# Altium footprint library TH resistors.PcbLib: 92 footprints (part 1 of 6)
Each footprint in its own frame and in the unit in brackets; x right, y up, seen from the top. Pads: shape width x height; smd on the part's side, far side on the other; paste and mask are expansions set on the pad; w line width, h text height; cw(c..) or ccw(c..) is an arc to the next point about the centre after c.
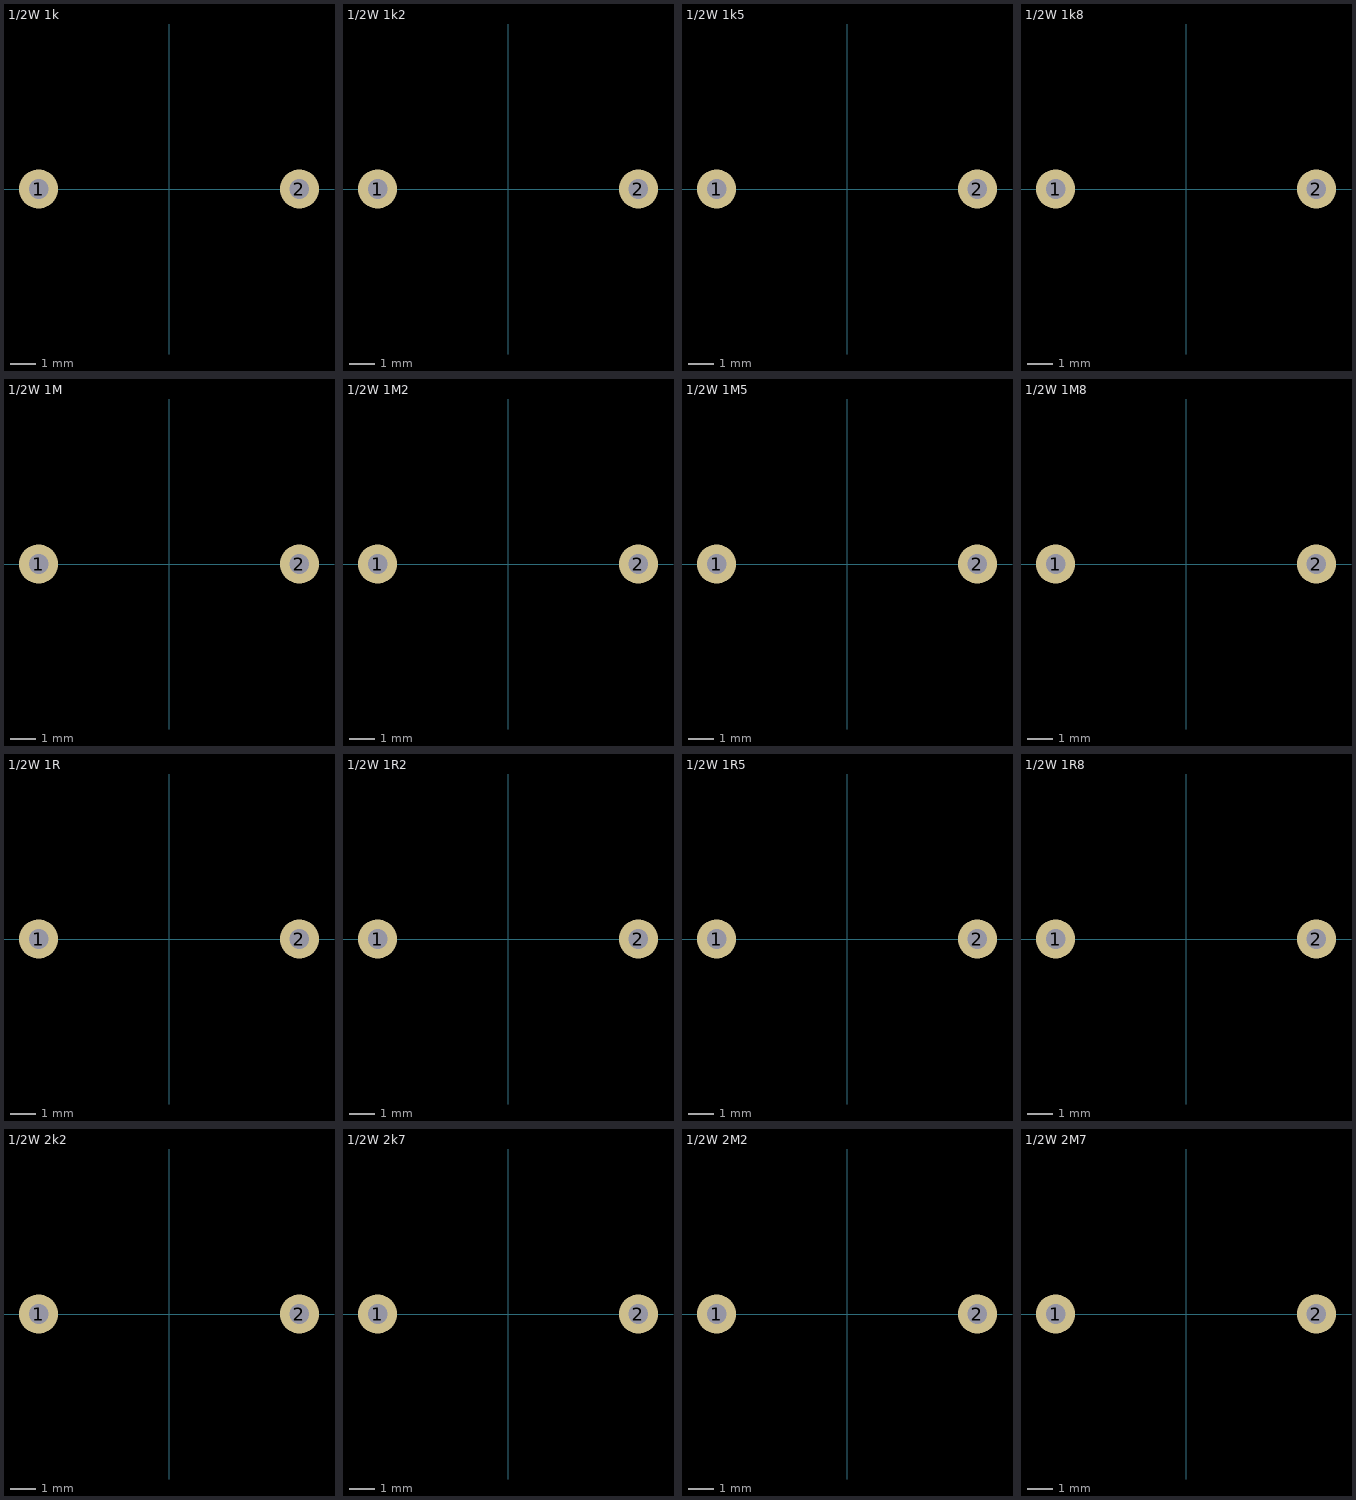
[diagram p0: the footprints below, top view; thin cyan lines are the x and y axes]

## 1/2W 1k [mil]
pads (2):
  round 60 hole 30: 1(-200,0) 2(200,0)
3D body "Resistor Axial 0.5W - Pitch 10.2mm (401.57mil) - 1K.STEP": height 59.06, standoff -206.69, extent -210.63,-59.06 210.63,59.06

## 1/2W 1k2 [mil]
pads (2):
  round 60 hole 30: 1(-200,0) 2(200,0)
3D body "Resistor Axial 0.5W - Pitch 10.2mm (401.57mil) - 1K2.STEP": height 59.06, standoff -206.69, extent -210.63,-59.06 210.63,59.06

## 1/2W 1k5 [mil]
pads (2):
  round 60 hole 30: 1(-200,0) 2(200,0)
3D body "Resistor Axial 0.5W - Pitch 10.2mm (401.57mil) - 1K5.STEP": height 59.06, standoff -206.69, extent -210.63,-59.06 210.63,59.06

## 1/2W 1k8 [mil]
pads (2):
  round 60 hole 30: 1(-200,0) 2(200,0)
3D body "Resistor Axial 0.5W - Pitch 10.2mm (401.57mil) - 1K8.STEP": height 59.06, standoff -206.69, extent -210.63,-59.06 210.63,59.06

## 1/2W 1M [mil]
pads (2):
  round 60 hole 30: 1(-200,0) 2(200,0)
3D body "Resistor Axial 0.5W - Pitch 10.2mm (401.57mil) - 1M.STEP": height 59.06, standoff -206.69, extent -210.63,-59.06 210.63,59.06

## 1/2W 1M2 [mil]
pads (2):
  round 60 hole 30: 1(-200,0) 2(200,0)
3D body "Resistor Axial 0.5W - Pitch 10.2mm (401.57mil) - 1M2.STEP": height 59.06, standoff -206.69, extent -210.63,-59.06 210.63,59.06

## 1/2W 1M5 [mil]
pads (2):
  round 60 hole 30: 1(-200,0) 2(200,0)
3D body "Resistor Axial 0.5W - Pitch 10.2mm (401.57mil) - 1M5.STEP": height 59.06, standoff -206.69, extent -210.63,-59.06 210.63,59.06

## 1/2W 1M8 [mil]
pads (2):
  round 60 hole 30: 1(-200,0) 2(200,0)
3D body "Resistor Axial 0.5W - Pitch 10.2mm (401.57mil) - 1M8.STEP": height 59.06, standoff -206.69, extent -210.63,-59.06 210.63,59.06

## 1/2W 1R [mil]
pads (2):
  round 60 hole 30: 1(-200,0) 2(200,0)
3D body "Resistor Axial 0.5W - Pitch 10.2mm (401.57mil) - 1R.STEP": height 59.06, standoff -206.69, extent -210.63,-59.06 210.63,59.06

## 1/2W 1R2 [mil]
pads (2):
  round 60 hole 30: 1(-200,0) 2(200,0)
3D body "Resistor Axial 0.5W - Pitch 10.2mm (401.57mil) - 1R2.STEP": height 59.06, standoff -206.69, extent -210.63,-59.06 210.63,59.06

## 1/2W 1R5 [mil]
pads (2):
  round 60 hole 30: 1(-200,0) 2(200,0)
3D body "Resistor Axial 0.5W - Pitch 10.2mm (401.57mil) - 1R5.STEP": height 59.06, standoff -206.69, extent -210.63,-59.06 210.63,59.06

## 1/2W 1R8 [mil]
pads (2):
  round 60 hole 30: 1(-200,0) 2(200,0)
3D body "Resistor Axial 0.5W - Pitch 10.2mm (401.57mil) - 1R8.STEP": height 59.06, standoff -206.69, extent -210.63,-59.06 210.63,59.06

## 1/2W 2k2 [mil]
pads (2):
  round 60 hole 30: 1(-200,0) 2(200,0)
3D body "Resistor Axial 0.5W - Pitch 10.2mm (401.57mil) - 2K2.STEP": height 59.06, standoff -206.69, extent -210.63,-59.06 210.63,59.06

## 1/2W 2k7 [mil]
pads (2):
  round 60 hole 30: 1(-200,0) 2(200,0)
3D body "Resistor Axial 0.5W - Pitch 10.2mm (401.57mil) - 2K7.STEP": height 59.06, standoff -206.69, extent -210.63,-59.06 210.63,59.06

## 1/2W 2M2 [mil]
pads (2):
  round 60 hole 30: 1(-200,0) 2(200,0)
3D body "Resistor Axial 0.5W - Pitch 10.2mm (401.57mil) - 2M2.STEP": height 59.06, standoff -206.69, extent -210.63,-59.06 210.63,59.06

## 1/2W 2M7 [mil]
pads (2):
  round 60 hole 30: 1(-200,0) 2(200,0)
3D body "Resistor Axial 0.5W - Pitch 10.2mm (401.57mil) - 2M7.STEP": height 59.06, standoff -206.69, extent -210.63,-59.06 210.63,59.06